# Altium footprint library ElectroliticSMD.PcbLib: 2 footprints
Each footprint in its own frame and in the unit in brackets; x right, y up, seen from the top. Pads: shape width x height; smd on the part's side, far side on the other; paste and mask are expansions set on the pad; w line width, h text height; cw(c..) or ccw(c..) is an arc to the next point about the centre after c.
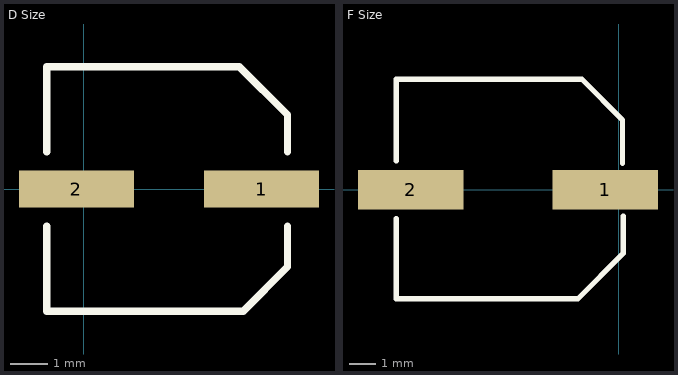
[diagram p0: the footprints below, top view; thin cyan lines are the x and y axes]

## D Size [mm]
pads (2):
  rect 3.1x1 smd: 1(4.8,0) 2(-0.2,0)
Top Overlay:
  lines w0.2: -1,-1 -1,-3.3 4.3,-3.3 5.5,-2.1 5.5,-1 ; -1,1 -1,3.3 4.2,3.3 5.5,2 5.5,1
3D body: height 5.4, standoff 0, extent -1.2,-3.3 5.8,3.3

## F Size [mm]
pads (2):
  rect 4x1.5 smd: 1(-0.5,0) 2(-7.9,0)
Top Overlay:
  lines w0.2: -8.45,-1.1 -8.45,-4.15 -1.55,-4.15 0.175,-2.425 0.175,-1 ; -8.45,1.1 -8.45,4.2 -1.4,4.2 0.15,2.65 0.15,1
3D body: height 10.2, standoff 0, extent -9.1,-4.15 0.8,4.15